# Altium schematic symbol library SIGMA.SchLib: 74 symbols
Pins are listed as number, name and electrical type; pins without a type are passive.

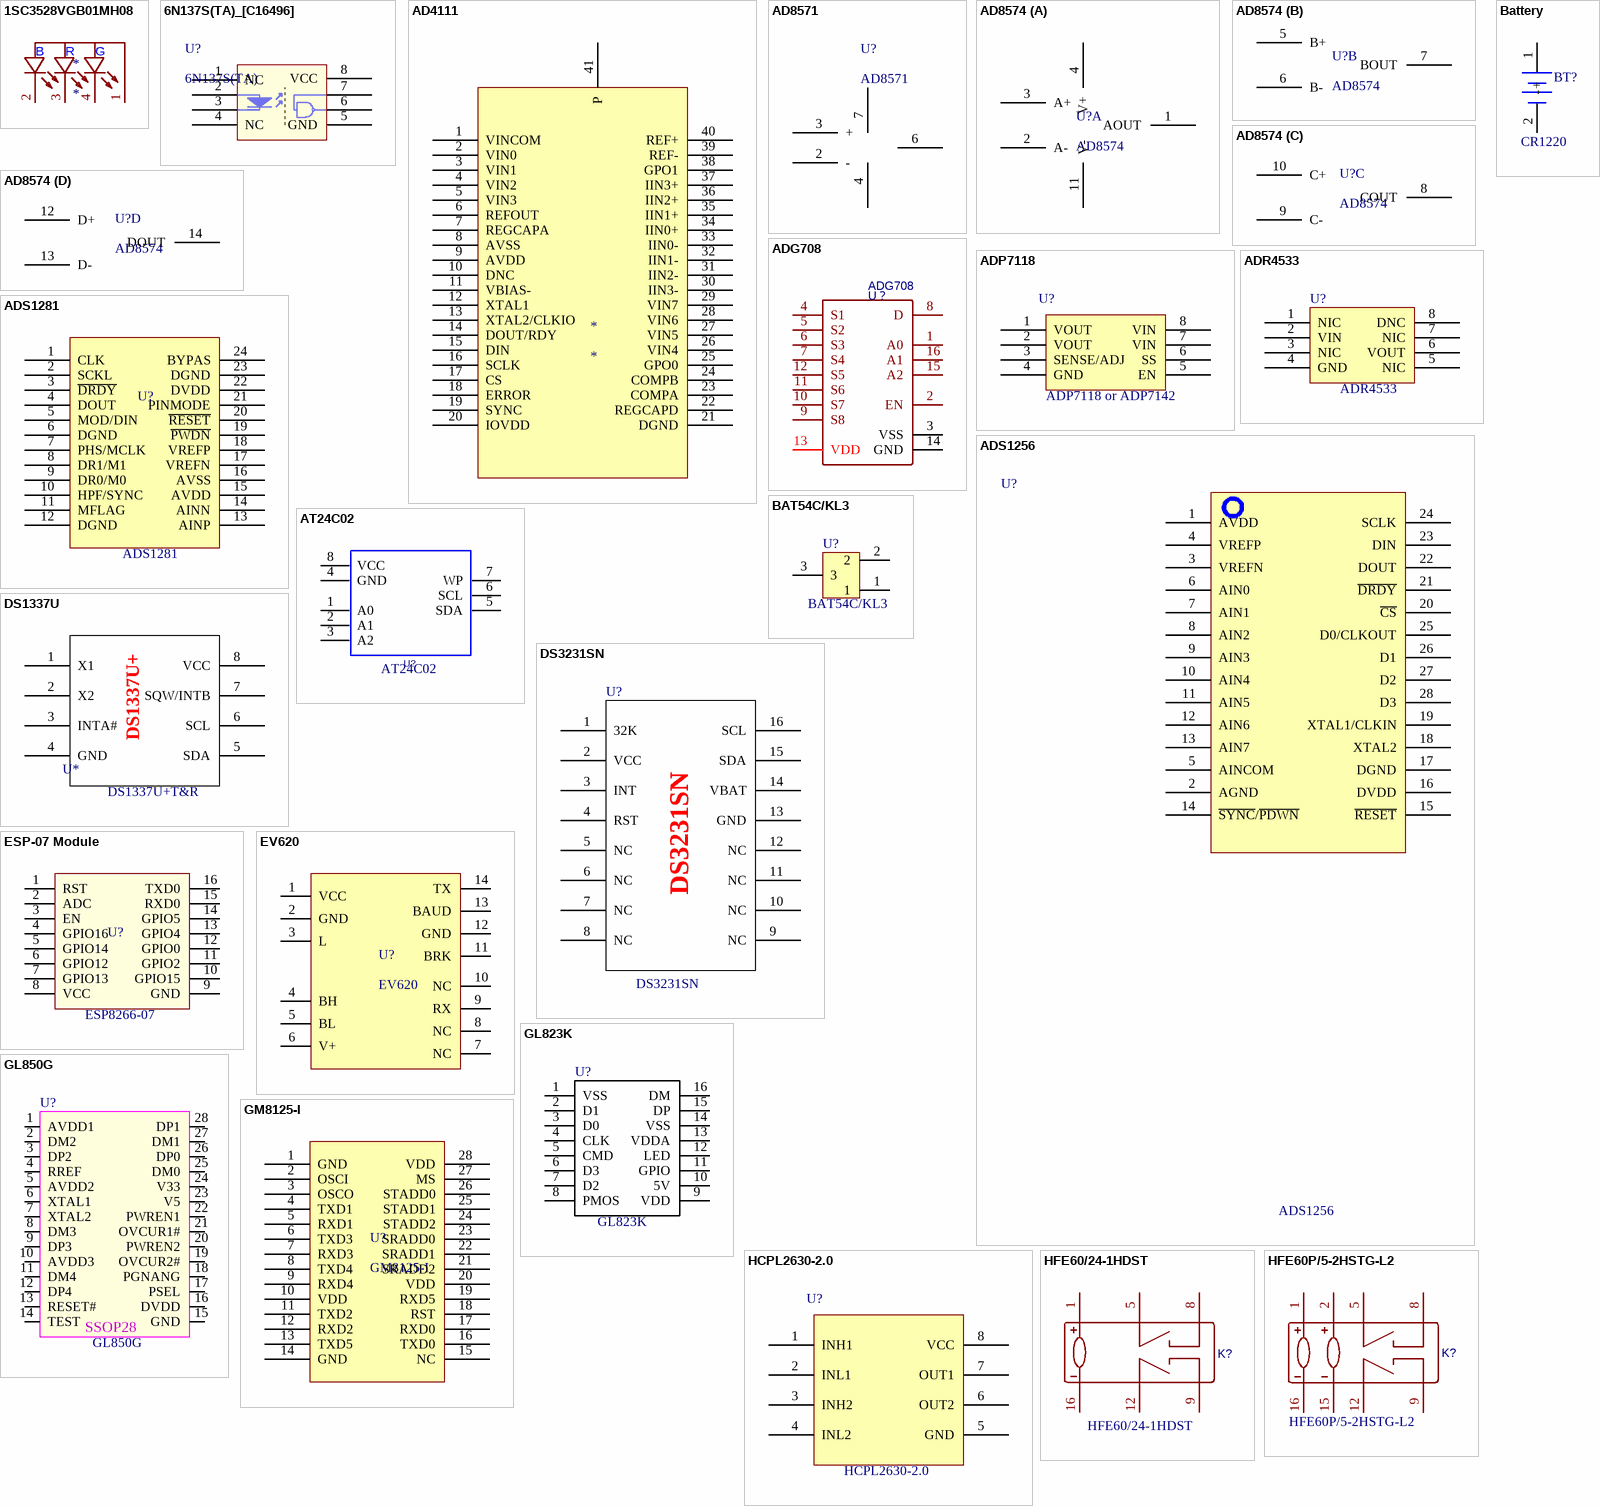
[diagram p0: symbols 1SC3528VGB01MH08 to HFE60P/5-2HSTG-L2]

## 1SC3528VGB01MH08
designator *
pins: 1, 2, 3, 4
text: B; R; G

## 6N137S(TA)_[C16496]
designator U?, comment 6N137S(TA)
贴片光耦; ComponentLink1Description: 供应商链接; ComponentLink1URL: http://www.szlcsc.com/product/details_17178.html; Package: SMD-8_6.3mm; Supplier: LC; SuppliersPartNumber: C16496
footprint SMD-8_6.3mm
pins: 1 NC, 2 A "Anode", 3 K "Cathode", 4 NC, 5 GND, 6 VO, 7 VE, 8 VCC

## AD4111
designator *
pins: 1 VINCOM, 2 VIN0, 3 VIN1, 4 VIN2, 5 VIN3, 6 REFOUT, 7 REGCAPA, 8 AVSS, 9 AVDD, 10 DNC, 11 VBIAS-, 12 XTAL1, 13 XTAL2/CLKIO, 14 DOUT/RDY, 15 DIN, 16 SCLK, 17 CS, 18 ERROR, 19 SYNC, 20 IOVDD, 21 DGND, 22 REGCAPD, 23 COMPA, 24 COMPB, 25 GPO0, 26 VIN4, 27 VIN5, 28 VIN6, 29 VIN7, 30 IIN3-, 31 IIN2-, 32 IIN1-, 33 IIN0-, 34 IIN0+, 35 IIN1+, 36 IIN2+, 37 IIN3+, 38 GPO1, 39 REF-, 40 REF+, 41 P

## AD8571
designator U?
footprint SOIC-8_150mil
pins: 2 -, 3 +, 4 V-, 6 OUT, 7 V+

## AD8574
designator U?
footprint SOIC-14_208mil
part A pins: 1 AOUT, 2 A-, 3 A+, 4 V+, 11 V-
part B pins: 5 B+, 6 B-, 7 BOUT
part C pins: 8 COUT, 9 C-, 10 C+
part D pins: 12 D+, 13 D-, 14 DOUT

## ADG708
designator U？
模拟开关芯片; BOM_Manufacturer: ADI; BOM_Manufacturer Part: ADG708BRUZ; SMT Type: Extend; BOM_Supplier: LCSC; image: //image.lceda.cn/szlcsc/C35325.jpg; BOM_Supplier Part: C35325; BOM_LCSC Assembly: Yes; spicePre: U; spiceSymbolName: ADG708BRUZ
footprint TSSOP16_N (5*6.4*1mm（长宽高）)
pins: 1 A0, 2 EN, 3 VSS, 4 S1, 5 S2, 6 S3, 7 S4, 8 D, 9 S8, 10 S7, 11 S6, 12 S5, 13 VDD, 14 GND, 15 A2, 16 A1

## ADP7118
designator U?, comment value ADP7118 or ADP7142  (hidden comment: ADP7118/ADP7142)
footprint SOIC-8_150mil
pins: 1 VOUT, 2 VOUT, 3 SENSE/ADJ, 4 GND, 5 EN, 6 SS, 7 VIN, 8 VIN

## ADR4533
designator U?
Value: ADR4533
footprint SOIC-8_150mil
pins: 1 NIC, 2 VIN, 3 NIC, 4 GND, 5 NIC, 6 VOUT, 7 NIC, 8 DNC

## ADS1256
designator U?
Value: ADS1256
footprint SSOP-28_208mil
pins: 1 AVDD, 2 AGND, 3 VREFN, 4 VREFP, 5 AINCOM, 6 AIN0, 7 AIN1, 8 AIN2, 9 AIN3, 10 AIN4, 11 AIN5, 12 AIN6, 13 AIN7, 14 ~{SYNC}/~{PDWN}, 15 ~{RESET}, 16 DVDD, 17 DGND, 18 XTAL2, 19 XTAL1/CLKIN, 20 ~{CS}, 21 ~{DRDY}, 22 DOUT, 23 DIN, 24 SCLK, 25 D0/CLKOUT, 26 D1, 27 D2, 28 D3

## ADS1281
designator U?
Value: ADS1281
footprint TSSOP-24
pins: 1 CLK, 2 SCKL, 3 ~{DRDY}, 4 DOUT, 5 MOD/DIN, 6 DGND, 7 PHS/MCLK, 8 DR1/M1, 9 DR0/M0, 10 HPF/SYNC, 11 MFLAG, 12 DGND, 13 AINP, 14 AINN, 15 AVDD, 16 AVSS, 17 VREFN, 18 VREFP, 19 ~{PWDN}, 20 ~{RESET}, 21 PINMODE, 22 DVDD, 23 DGND, 24 BYPAS

## AT24C02
designator U?
8 lead ssop,2k/2048bits; Manufacturer #1: ATMEL; Manufacturer #1 PN: AT24C02; Descrpit: 2k/2048bits; Value: AT24C02
footprint SOP-8_208mil
pins: 1 A0, 2 A1, 3 A2, 4 GND, 5 SDA, 6 SCL, 7 WP, 8 VCC

## BAT54C/KL3
designator U?
Descript: 311肖特基/BAT54C/SOT23; Value: BAT54C/KL3
footprint SOT-23 (SOT23, 3-Leads, Body 2.9x1.3mm, Pitch 0.95mm, Lead Span 2.3mm - Reverse Pinning, IPC High Density)
pins: 1 (power), 2 (power), 3 (power)

## Battery
designator BT?, comment CR1220
Multicell Battery; Descript: 319其它非定制类/电池/CR2032-HC2-22/3引脚焊接型纽扣电池; Published: 24-Mar-1999; LatestRevisionDate: 17-Jul-2002; LatestRevisionNote: Re-released for DXP Platform.; PackageReference: BAT-2; Publisher: Altium Limited; PackageDescription: Battery; 2 Leads; Value: CR1220
footprint CR1220贴片底座
footprint CR1220卧式直插
pins: 1 +, 2 -

## DS1337U
designator U*  (value not drawn)
pins: 1 X1, 2 X2, 3 INTA#, 4 GND, 5 SDA, 6 SCL, 7 SQW/INTB, 8 VCC
text: DS1337U+; DS1337U+T&R

## DS3231SN
designator U?
Value: DS3231SN
footprint SOIC-16_300mil
pins: 1 32K, 2 VCC, 3 INT, 4 RST, 5 NC, 6 NC, 7 NC, 8 NC, 9 NC, 10 NC, 11 NC, 12 NC, 13 GND, 14 VBAT, 15 SDA, 16 SCL

## ESP-07 Module
designator U?, comment ESP8266-07
ESP-07 Module; Value: ESP8266-07
footprint ESP-07 Module
pins: 1 RST, 2 ADC, 3 EN, 4 GPIO16, 5 GPIO14, 6 GPIO12, 7 GPIO13, 8 VCC, 9 GND, 10 GPIO15, 11 GPIO2, 12 GPIO0, 13 GPIO4, 14 GPIO5, 15 RXD0, 16 TXD0

## EV620
designator U?
Powerbus主站模块
footprint EV620 (PowerBus主站模块)
pins: 1 VCC, 2 GND, 3 L, 4 BH, 5 BL, 6 V+, 7 NC, 8 NC, 9 RX, 10 NC, 11 BRK, 12 GND, 13 BAUD, 14 TX

## GL823K
designator U?
SD卡转USB的芯片; Value: GL823K
footprint SSOP16_N (6.3*7.7*1.6mm（长宽高）)
pins: 1 VSS, 2 D1, 3 D0, 4 CLK, 5 CMD, 6 D3, 7 D2, 8 PMOS, 9 VDD, 10 5V, 11 GPIO, 12 LED, 13 VDDA, 14 VSS, 15 DP, 16 DM

## GL850G
designator U?
Value: GL850G
footprint SSOP28
pins: 1 AVDD1, 2 DM2, 3 DP2, 4 RREF, 5 AVDD2, 6 XTAL1, 7 XTAL2, 8 DM3, 9 DP3, 10 AVDD3, 11 DM4, 12 DP4, 13 RESET#, 14 TEST, 15 GND, 16 DVDD, 17 PSEL, 18 PGNANG, 19 OVCUR2#, 20 PWREN2, 21 OVCUR1#, 22 PWREN1, 23 V5, 24 V33, 25 DM0, 26 DP0, 27 DM1, 28 DP1
text: SSOP28

## GM8125-I
designator U?
footprint SOP-28_300mil
pins: 1 GND, 2 OSCI, 3 OSCO, 4 TXD1, 5 RXD1, 6 TXD3, 7 RXD3, 8 TXD4, 9 RXD4, 10 VDD, 11 TXD2, 12 RXD2, 13 TXD5, 14 GND, 15 NC, 16 TXD0, 17 RXD0, 18 RST, 19 RXD5, 20 VDD, 21 SRADD2, 22 SRADD1, 23 SRADD0, 24 STADD2, 25 STADD1, 26 STADD0, 27 MS, 28 VDD

## HCPL2630-2.0
designator U?
Value: HCPL2630-2.0
footprint DIP-8.0
pins: 1 INH1, 2 INL1, 3 INH2, 4 INL2, 5 GND, 6 OUT2, 7 OUT1, 8 VCC

## HFE60/24-1HDST
designator K?
BOM_Manufacturer: Xiamen Hongfa Electroacoustic; Contributor: LCSC; BOM_Supplier: LCSC; BOM_Supplier Part: C358642; BOM_Manufacturer Part: HFE60/24-1HDST; spicePre: K; Value: HFE60/24-1HDST
footprint HFE60/24-1HDST (磁保继电器，断电后也能保持状态)
pins: 1, 5, 8, 9, 12, 16

## HFE60P/5-2HSTG-L2
designator K?
BOM_Manufacturer: HF; Contributor: LCSC; BOM_Supplier: LCSC; BOM_Manufacturer Part: HFE60P/5-2HSTG-L2; BOM_Supplier Part: C125201; spicePre: K; Value: HFE60P/5-2HSTG-L2
footprint HFE60P/5-2HSTG-L2 (双线圈(5V)两组常开(5A250V)磁保持继电器 双稳态)
pins: 1, 2, 5, 8, 9, 12, 15, 16

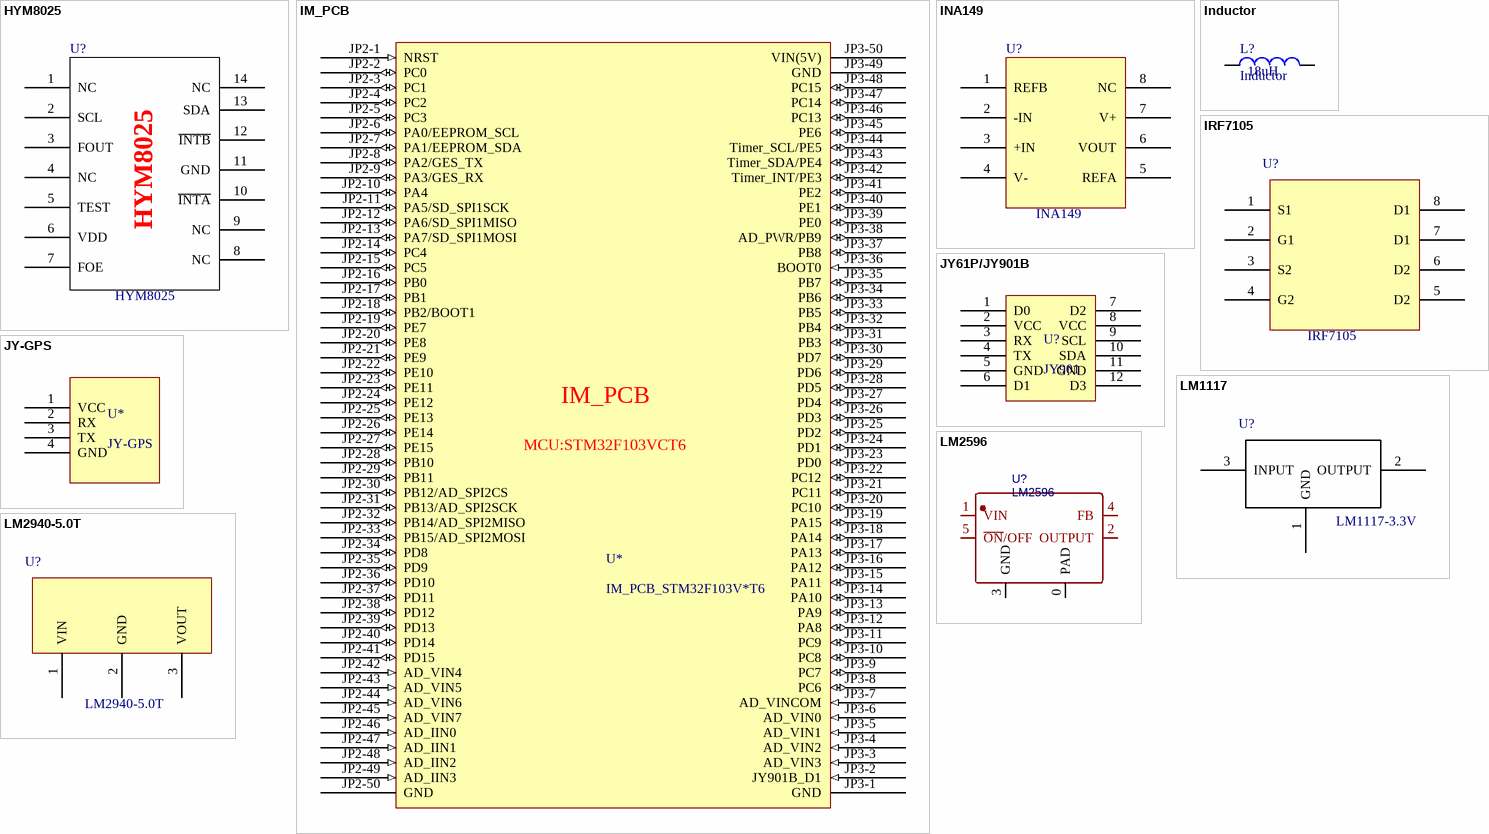
[diagram p1: symbols HYM8025 to LM2940-5.0T]

## HYM8025
designator U?
Value: HYM8025
footprint SOIC-14_208mil
pins: 1 NC, 2 SCL, 3 FOUT, 4 NC, 5 TEST, 6 VDD, 7 FOE, 8 NC, 9 NC, 10 ~{INTA}, 11 GND, 12 ~{INTB}, 13 SDA, 14 NC

## IM_PCB
designator U*, comment IM_PCB_STM32F103V*T6
footprint IM_PCB_Footprint (IM核心板封装)
pins: JP2-1 NRST (in), JP2-2 PC0 (io), JP2-3 PC1 (io), JP2-4 PC2 (io), JP2-5 PC3 (io), JP2-6 PA0/EEPROM_SCL (io), JP2-7 PA1/EEPROM_SDA (io), JP2-8 PA2/GES_TX (io), JP2-9 PA3/GES_RX (io), JP2-10 PA4 (io), JP2-11 PA5/SD_SPI1SCK (io), JP2-12 PA6/SD_SPI1MISO (io), JP2-13 PA7/SD_SPI1MOSI (io), JP2-14 PC4 (io), JP2-15 PC5 (io), JP2-16 PB0 (io), JP2-17 PB1 (io), JP2-18 PB2/BOOT1 (io), JP2-19 PE7 (io), JP2-20 PE8 (io), JP2-21 PE9 (io), JP2-22 PE10 (io), JP2-23 PE11 (io), JP2-24 PE12 (io), JP2-25 PE13 (io), JP2-26 PE14 (io), JP2-27 PE15 (io), JP2-28 PB10 (io), JP2-29 PB11 (io), JP2-30 PB12/AD_SPI2CS (io), JP2-31 PB13/AD_SPI2SCK (io), JP2-32 PB14/AD_SPI2MISO (io), JP2-33 PB15/AD_SPI2MOSI (io), JP2-34 PD8 (io), JP2-35 PD9 (io), JP2-36 PD10 (io), JP2-37 PD11 (io), JP2-38 PD12 (io), JP2-39 PD13 (io), JP2-40 PD14 (io), JP2-41 PD15 (io), JP2-42 AD_VIN4 (in), JP2-43 AD_VIN5 (in), JP2-44 AD_VIN6 (in), JP2-45 AD_VIN7 (in), JP2-46 AD_IIN0 (in), JP2-47 AD_IIN1 (in), JP2-48 AD_IIN2 (in), JP2-49 AD_IIN3 (in), JP2-50 GND (power), JP3-1 GND (power), JP3-2 JY901B_D1 (in), JP3-3 AD_VIN3 (in), JP3-4 AD_VIN2 (in), JP3-5 AD_VIN1 (in), JP3-6 AD_VIN0 (in), JP3-7 AD_VINCOM (in), JP3-8 PC6 (io), JP3-9 PC7 (io), JP3-10 PC8 (io), JP3-11 PC9 (io), JP3-12 PA8 (io), JP3-13 PA9 (io), JP3-14 PA10 (io), JP3-15 PA11 (io), JP3-16 PA12 (io), JP3-17 PA13 (io), JP3-18 PA14 (io), JP3-19 PA15 (io), JP3-20 PC10 (io), JP3-21 PC11 (io), JP3-22 PC12 (io), JP3-23 PD0 (io), JP3-24 PD1 (io), JP3-25 PD2 (io), JP3-26 PD3 (io), JP3-27 PD4 (io), JP3-28 PD5 (io), JP3-29 PD6 (io), JP3-30 PD7 (io), JP3-31 PB3 (io), JP3-32 PB4 (io), JP3-33 PB5 (io), JP3-34 PB6 (io), JP3-35 PB7 (io), JP3-36 BOOT0 (in), JP3-37 PB8 (io), JP3-38 AD_PWR/PB9 (io), JP3-39 PE0 (io), JP3-40 PE1 (io), JP3-41 PE2 (io), JP3-42 Timer_INT/PE3 (io), JP3-43 Timer_SDA/PE4 (io), JP3-44 Timer_SCL/PE5 (io), JP3-45 PE6 (io), JP3-46 PC13 (io), JP3-47 PC14 (io), JP3-48 PC15 (io), JP3-49 GND (power), JP3-50 VIN(5V) (power)
text: MCU:STM32F103VCT6

## INA149
designator U?
Value: INA149
footprint SOIC-8_150mil
pins: 1 REFB, 2 -IN, 3 +IN, 4 V-, 5 REFA, 6 VOUT, 7 V+, 8 NC

## Inductor
designator L?  value 18uH
Code_IEC: 1005; Published: 8-Jun-2000; LatestRevisionDate: 17-Jul-2002; LatestRevisionNote: Re-released for DXP Platform.; PackageReference: 0402-A; Publisher: Altium Limited; Code_JEITA: 0402
footprint 0603_L
simulation model INDUCTOR (Inductor)
signal-integrity model Inductor
footprint 6045 (6.0*6.0*4.5MM)
footprint 0805_L
footprint Introducter[CD127]
pins: 1, 2

## IRF7105
designator U?
连续漏极电流（Id）（25°C 时）: 3.5A，2.3A; 漏源电压（Vdss）: 25V; 栅源极阈值电压（最大值）: 3V @ 250uA; 漏源导通电阻（最大值）: 100 mΩ @ 1A，10V; 类型: N 和 P 沟道; 功率耗散（最大值）: 2W; Value: IRF7105
footprint SO-8_3.9MM
pins: 1 S1, 2 G1, 3 S2, 4 G2, 5 D2, 6 D2, 7 D1, 8 D1

## JY61P/JY901B
designator U?, comment JY901
姿态模块
footprint JY-901
pins: 1 D0, 2 VCC, 3 RX, 4 TX, 5 GND, 6 D1, 7 D2, 8 VCC, 9 SCL, 10 SDA, 11 GND, 12 D3

## JY-GPS
designator U*
footprint JY-GPS
pins: 1 VCC, 2 RX, 3 TX, 4 GND

## LM1117
designator U?  value LM1117-3.3V  (hidden comment: LM1117)
footprint SOT-223
pins: 1 GND, 2 OUTPUT, 3 INPUT

## LM2596
designator U?
BOM_Manufacturer: ON; BOM_Manufacturer Part: LM2596DSADJG; BOM_Supplier: LCSC; BOM_Supplier Part: C92134; spicePre: U; Value: LM2596
footprint TO-263-5
pins: 0 PAD, 1 VIN, 2 OUTPUT, 3 GND, 4 FB, 5 ~{ON}/OFF

## LM2940-5.0T
designator U?, comment value LM2940-5.0T  (hidden comment: LM2940)
LM2940-5.0T
footprint TO-263-3
pins: 1 VIN, 2 GND, 3 VOUT

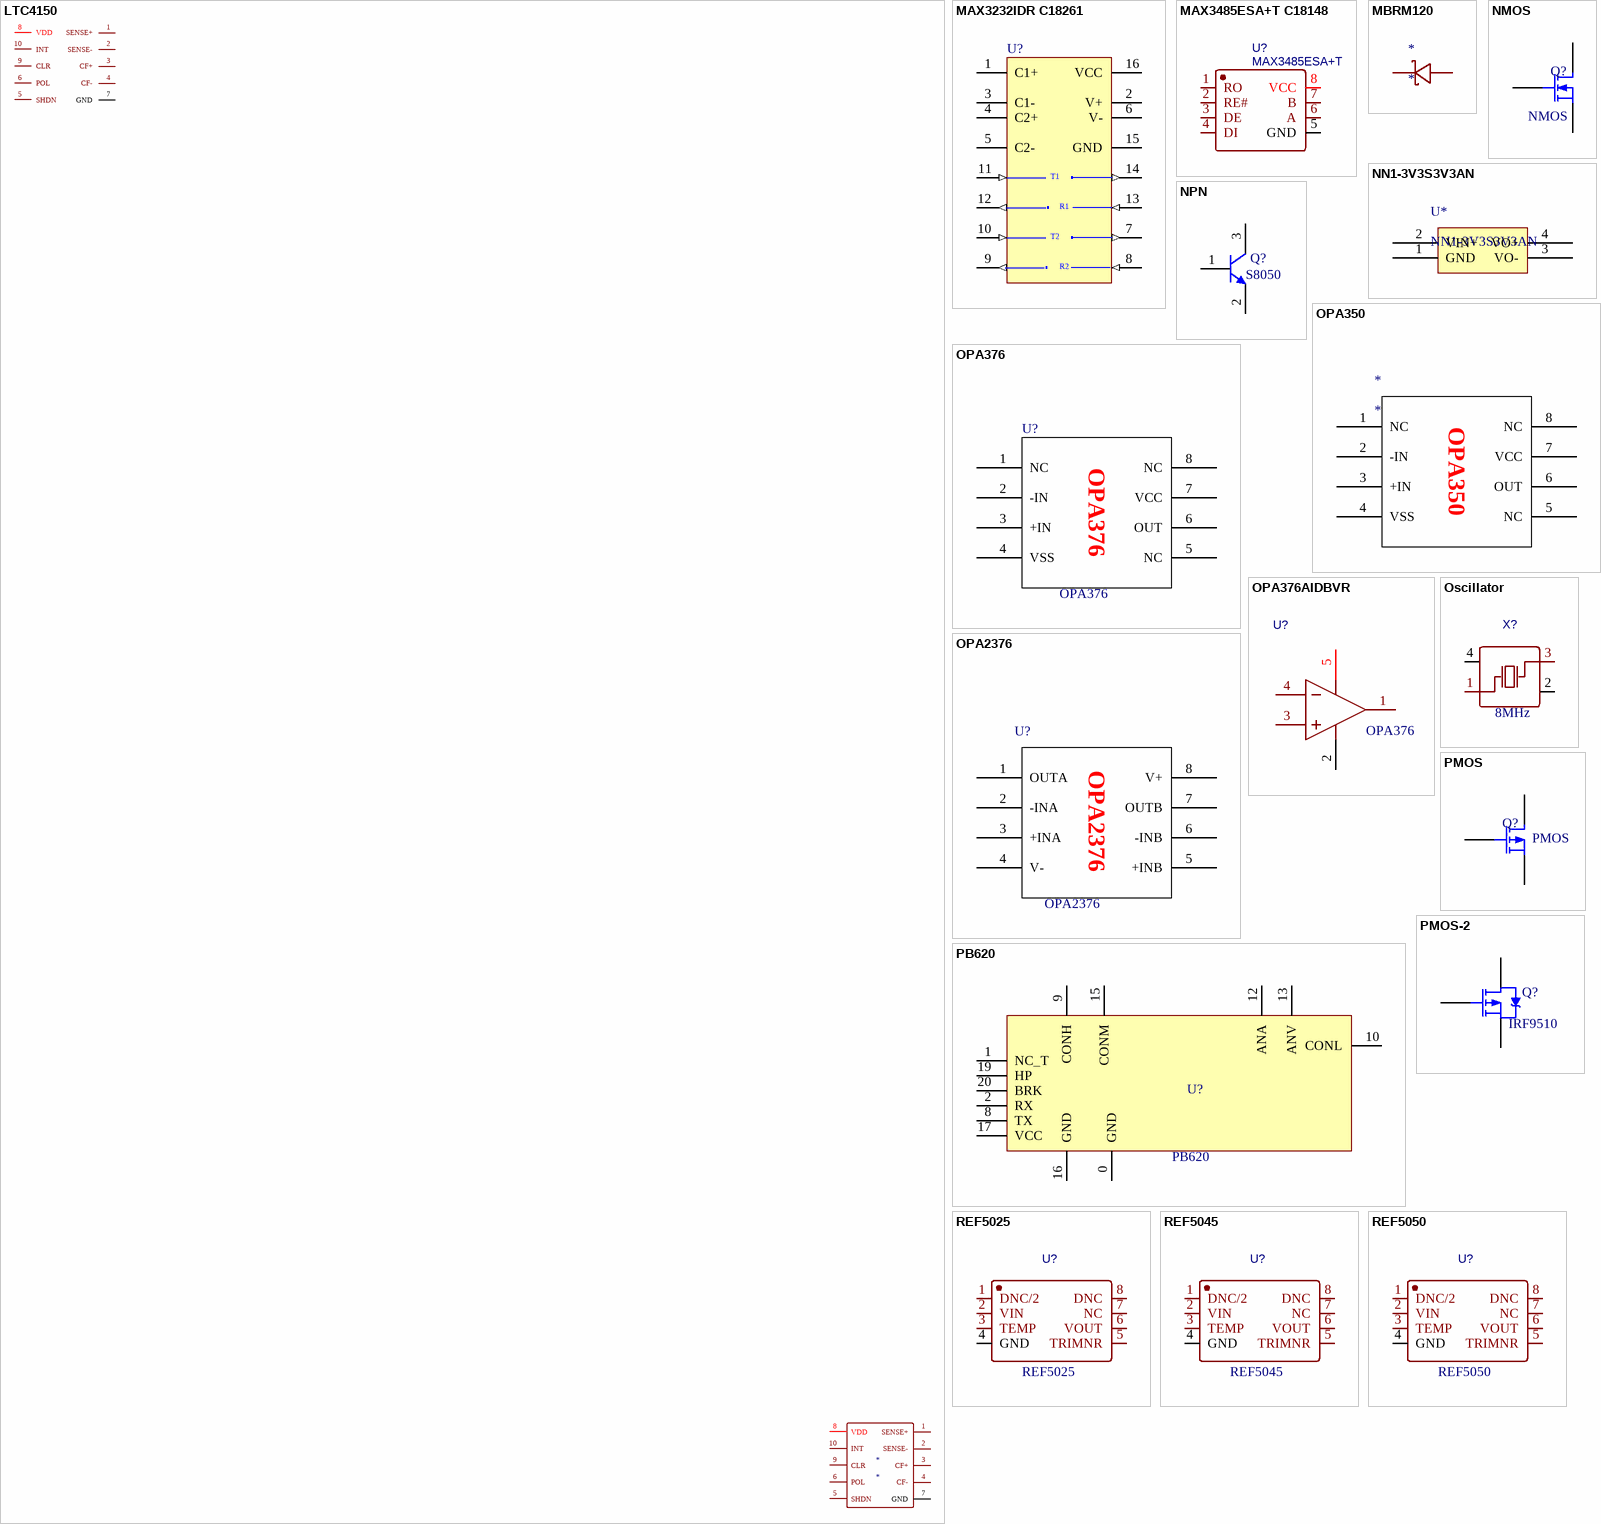
[diagram p2: symbols LTC4150 to REF5050]

## LTC4150
designator *
pins: 1 SENSE+, 1 SENSE+, 2 SENSE-, 2 SENSE-, 3 CF+, 3 CF+, 4 CF-, 4 CF-, 5 SHDN, 5 SHDN, 6 POL, 6 POL, 7 GND, 7 GND, 8 VDD, 8 VDD, 9 CLR, 9 CLR, 10 INT, 10 INT

## MAX3232IDR C18261
designator U?  (value not drawn)
+3.3V Powered, Multi-Channel RS-232 Driver/Receiver; Published: 16-Jan-2001; LatestRevisionDate: 13-Apr-2006; LatestRevisionNote: IPC-7351 Footprint Added.; PackageReference: NSO16; Publisher: Altium Limited; PackageDescription: 16-Pin Small Outline Integrated Circuit 1.27 mm Pitch; Code_JEDEC: MS-012-AC; Code_IPC: SOIC127P600-16; ComponentLink1Description: Manufacturer Link; ComponentLink1URL: http://www.maxim-ic.com/; ComponentLink2Description: Datasheet; ComponentLink2URL: https://item.szlcsc.com/18956.html
3D model NSO16 (16-Pin Small Outline Integrated Circuit 1.27 mm Pitch)
footprint SOIC-16_150mil
pins: 1 C1+, 2 V+ (power), 3 C1-, 4 C2+, 5 C2-, 6 V- (power), 7 T2OUT (out), 8 R2IN (in), 9 R2OUT (out), 10 T2IN (in), 11 T1IN (in), 12 R1OUT (out), 13 R1IN (in), 14 T1OUT (out), 15 GND (power), 16 VCC (power)
text: T1; R1; T2; R2

## MAX3485ESA+T C18148
designator U?, comment MAX3485ESA+T
485芯片; BOM_Manufacturer: MAXIM; SMT Type: Extend; BOM_Supplier: LCSC; BOM_Manufacturer Part: MAX3485ESA+T; image: //image.lceda.cn/szlcsc/C18148.jpg; BOM_Supplier Part: C18148; BOM_LCSC Assembly: Yes; spicePre: U; URL: https://item.szlcsc.com/18840.html
footprint SOIC-8_150MIL
pins: 1 RO, 2 RE#, 3 DE, 4 DI, 5 GND, 6 A, 7 B, 8 VCC

## MBRM120
designator *
pins: 1 C, 2 A

## NMOS
designator Q?
Value: NMOS
footprint TO252
footprint SOT-23 (SOT23, 3-Leads, Body 2.9x1.3mm, Pitch 0.95mm, Lead Span 2.3mm - Reverse Pinning, IPC High Density)
pins: 1 G, 2 D, 3 S

## NN1-3V3S3V3AN
designator U*
DC-DC隔离芯片; ComponentLink1Description: https://item.szlcsc.com/217114.html
footprint B0505S-1W (11.68mm*6mm*9.65mm(长*宽*高）)
footprint B0505D-2W (19.5mm*9.8mm*7.7mm(长*宽*高）)
footprint B0505S-2W (19.5mm*7.5mm*10mm(长*宽*高）)
pins: 1 GND, 2 VIN+, 3 VO-, 4 VO+

## NPN
designator Q?  value S8050  (hidden comment: NPN)
NPN Bipolar Transistor; Published: 8-Jun-2000; LatestRevisionDate: 17-Jul-2002; LatestRevisionNote: Re-released for DXP Platform.; PackageReference: TO-226-AA; Publisher: Altium Limited; PackageDescription: TO, Flat Index; 3 In-Line, Axial Leads; Body Dia. 4.8mm; Leads 0.55 x 0.51 mm (max); Code_JEDEC: TO-226-AA
simulation model NPN
signal-integrity model NPN
footprint SOT-23 (SOT23, 3-Leads, Body 2.9x1.3mm, Pitch 0.95mm, Lead Span 2.3mm - Reverse Pinning, IPC High Density)
pins: 1 B, 2 E, 3 C

## OPA350
designator *
pins: 1 NC, 2 -IN, 3 +IN, 4 VSS, 5 NC, 6 OUT, 7 VCC, 8 NC

## OPA376
designator U?
Value: OPA376
footprint SOIC-8_150mil
pins: 1 NC, 2 -IN, 3 +IN, 4 VSS, 5 NC, 6 OUT, 7 VCC, 8 NC

## OPA376AIDBVR
designator U?  value OPA376  (hidden comment: OPA376AIDBVR)
BOM_Manufacturer: TI; BOM_Supplier: LCSC; BOM_Manufacturer Part: OPA376AIDBVR; image: //image.lceda.cn/szlcsc/C42134.jpg; BOM_Supplier Part: C42134; BOM_LCSC Assembly: Yes; spicePre: U
footprint SOT-23-5
pins: 1 OUT, 2 V-, 3 IN+, 4 IN-, 5 V+

## OPA2376
designator U?
Value: OPA2376
footprint SOIC-8_150mil
pins: 1 OUTA, 2 -INA, 3 +INA, 4 V-, 5 +INB, 6 -INB, 7 OUTB, 8 V+

## Oscillator
designator X?, comment value 8MHz  (hidden comment: 有源晶振)
BOM_Manufacturer: TAE; BOM_Manufacturer Part: SMD-5032_4P8M20pf20ppm; nameAlias: Frequency; Contributor: LCSC; BOM_Supplier: LCSC; BOM_Supplier Part: C133333; spicePre: X; spiceSymbolName: SMD-5032_4P8M20PF20PPM
footprint SMD-5032_4P (Footprint not found)
footprint SMD-3225_4P
pins: 1 OSC1, 2 GND, 3 OSC2, 4 GND

## PB620
designator U?
footprint QFN20 5X5 (20脚，长x宽x高：5x5x0.9mm，脚距：0.5mm)
pins: 0 GND, 1 NC_T, 2 RX, 8 TX, 9 CONH, 10 CONL, 12 ANA, 13 ANV, 15 CONM, 16 GND, 17 VCC, 19 HP, 20 BRK

## PMOS
designator Q?
Value: PMOS
footprint TO252
footprint SOT-23 (SOT23, 3-Leads, Body 2.9x1.3mm, Pitch 0.95mm, Lead Span 2.3mm - Reverse Pinning, IPC High Density)
pins: 1 G, 2 D, 3 S

## PMOS-2
designator Q?  value IRF9510  (hidden comment: PMOS-2)
P-Channel Power MOSFET; Note: Pin 4 not drawn and electrically connected to Pin 2.; Published: 8-Jun-2000; LatestRevisionDate: 17-Jul-2002; LatestRevisionNote: Re-released for DXP Platform.; DatasheetDocument: PD-9.390D; PackageReference: TO-220AB; Publisher: Altium Limited; Code_JEDEC: TO-220-AB; ComponentLink1Description: Manufacturer Link; ComponentLink1URL: http://www.irf.com/
simulation model IRF9510 (Spice Subcircuit)
footprint SOT-23 (SOT23, 3-Leads, Body 2.9x1.3mm, Pitch 0.95mm, Lead Span 2.3mm - Reverse Pinning, IPC High Density)
footprint TO252
pins: 1 G, 2 S, 3 D

## REF5025
designator U?
电压基准芯片 输出电压（最小值/固定）：2.5V 输出电流：10mA; BOM_Manufacturer: TI; BOM_Manufacturer Part: REF5025AIDGKT; Contributor: LCSC; BOM_Supplier: LCSC; BOM_Supplier Part: C75881; spicePre: U; Value: REF5025
footprint SOIC-8_150mil
pins: 1 DNC/2, 2 VIN, 3 TEMP, 4 GND, 5 TRIMNR, 6 VOUT, 7 NC, 8 DNC

## REF5045
designator U?
电压基准芯片 输出电压（最小值/固定）：4.5V 输出电流：10mA; BOM_Manufacturer: TI; BOM_Manufacturer Part: REF5025AIDGKT; Contributor: LCSC; BOM_Supplier: LCSC; BOM_Supplier Part: C75881; spicePre: U; Value: REF5045
footprint SOIC-8_150mil (5*6.2*1.75mm)
pins: 1 DNC/2, 2 VIN, 3 TEMP, 4 GND, 5 TRIMNR, 6 VOUT, 7 NC, 8 DNC

## REF5050
designator U?
电压基准芯片 输出电压（最小值/固定）：5.0V 输出电流：10mA; BOM_Manufacturer: TI; BOM_Manufacturer Part: REF5025AIDGKT; Contributor: LCSC; BOM_Supplier: LCSC; BOM_Supplier Part: C75881; spicePre: U; Value: REF5050
footprint SOIC-8_150mil
pins: 1 DNC/2, 2 VIN, 3 TEMP, 4 GND, 5 TRIMNR, 6 VOUT, 7 NC, 8 DNC

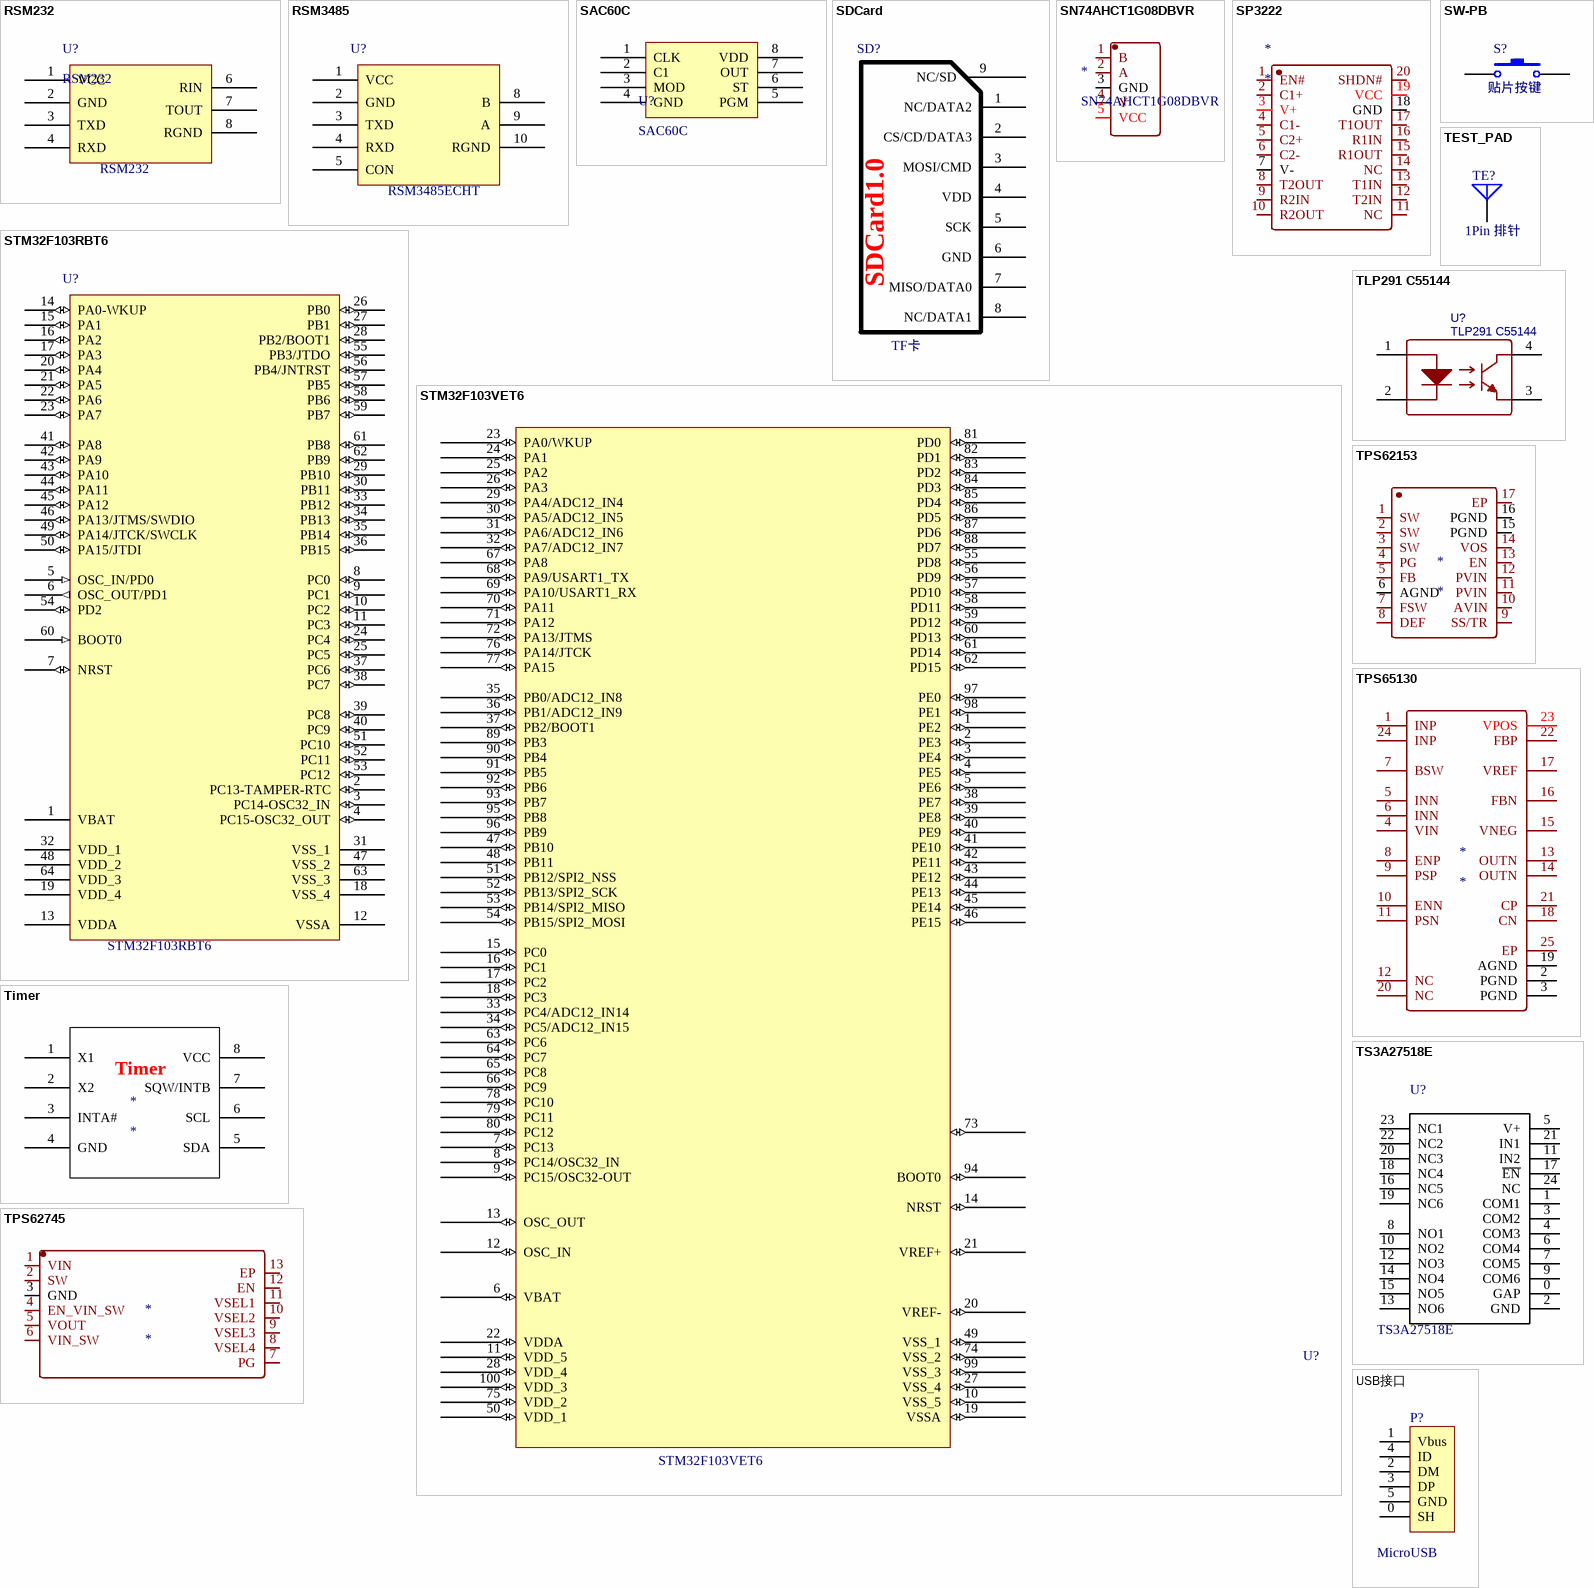
[diagram p3: symbols RSM232 to USB接口]

## RSM232
designator U?
Value: RSM232
footprint RSM232
pins: 1 VCC, 2 GND, 3 TXD, 4 RXD, 6 RIN, 7 TOUT, 8 RGND

## RSM3485
designator U?  value RSM3485ECHT  (hidden comment: RSM3485)
footprint RSM3485ECHT
pins: 1 VCC, 2 GND, 3 TXD, 4 RXD, 5 CON, 8 B, 9 A, 10 RGND

## SAC60C
designator U?
footprint LSOP8
pins: 1 CLK, 2 C1, 3 MOD, 4 GND, 5 PGM, 6 ST, 7 OUT, 8 VDD

## SDCard
designator SD?  value TF卡  (hidden comment: SDCard)
footprint SDCard
pins: 1 NC/DATA2, 2 CS/CD/DATA3, 3 MOSI/CMD, 4 VDD, 5 SCK, 6 GND, 7 MISO/DATA0, 8 NC/DATA1, 9 NC/SD
text: SDCard1.0

## SN74AHCT1G08DBVR
designator *
单通道逻辑或门
pins: 1 B, 2 A, 3 GND, 4 Y, 5 VCC

## SP3222
designator *
pins: 1 EN#, 2 C1+, 3 V+, 4 C1-, 5 C2+, 6 C2-, 7 V-, 8 T2OUT, 9 R2IN, 10 R2OUT, 11 NC, 12 T2IN, 13 T1IN, 14 NC, 15 R1OUT, 16 R1IN, 17 T1OUT, 18 GND, 19 VCC, 20 SHDN#

## STM32F103RBT6
designator U?  value STM32F103RBT6
STM32 ARM-based 32-bit MCU with 128 Kbytes Flash, 64-pin LQFP, Industrial Temperature; Published: 30-May-2008; DatasheetVersion: rev6, Mar-2008; PackageVersion: Mar-2008; PackageReference: LQFP64; Publisher: Altium Limited; PackageDescription: 64-Pin Low-Profile Quad Flat Pack, 10 x 10 mm Body, 0.5 mm Pitch (LQFP64); ComponentLink1Description: Manufacturer Link; ComponentLink1URL: www.st.com/stm32; ComponentLink2Description: Datasheet; ComponentLink2URL: http://www.st.com/stonline/products/literature/ds/13587.pdf
footprint LQFP64_M (Thin QFP, 64-Leads, Body 10x10mm, Pitch 0.5mm, IPC Low Density)
footprint LQFP-64_10x10x05P (嘉立创官网使用封装)
pins: 1 VBAT (power), 2 PC13-TAMPER-RTC (io), 3 PC14-OSC32_IN (io), 4 PC15-OSC32_OUT (io), 5 OSC_IN/PD0 (in), 6 OSC_OUT/PD1 (out), 7 NRST (io), 8 PC0 (io), 9 PC1 (io), 10 PC2 (io), 11 PC3 (io), 12 VSSA (power), 13 VDDA (power), 14 PA0-WKUP (io), 15 PA1 (io), 16 PA2 (io), 17 PA3 (io), 18 VSS_4 (power), 19 VDD_4 (power), 20 PA4 (io), 21 PA5 (io), 22 PA6 (io), 23 PA7 (io), 24 PC4 (io), 25 PC5 (io), 26 PB0 (io), 27 PB1 (io), 28 PB2/BOOT1 (io), 29 PB10 (io), 30 PB11 (io), 31 VSS_1 (power), 32 VDD_1 (power), 33 PB12 (io), 34 PB13 (io), 35 PB14 (io), 36 PB15 (io), 37 PC6 (io), 38 PC7 (io), 39 PC8 (io), 40 PC9 (io), 41 PA8 (io), 42 PA9 (io), 43 PA10 (io), 44 PA11 (io), 45 PA12 (io), 46 PA13/JTMS/SWDIO (io), 47 VSS_2 (power), 48 VDD_2 (power), 49 PA14/JTCK/SWCLK (io), 50 PA15/JTDI (io), 51 PC10 (io), 52 PC11 (io), 53 PC12 (io), 54 PD2 (io), 55 PB3/JTDO (io), 56 PB4/JNTRST (io), 57 PB5 (io), 58 PB6 (io), 59 PB7 (io), 60 BOOT0 (in), 61 PB8 (io), 62 PB9 (io), 63 VSS_3 (power), 64 VDD_3 (power)

## STM32F103VET6
designator U?
Value: STM32F103VET6
footprint LQFP-100_14x14x05P (嘉立创官网使用封装)
footprint LQFP100_M (Thin QFP, 100-Leads, Body 14x14mm, Pitch 0.5mm, IPC Low Density)
pins: 1 PE2 (io), 2 PE3 (io), 3 PE4 (io), 4 PE5 (io), 5 PE6 (io), 6 VBAT (io), 7 PC13 (io), 8 PC14/OSC32_IN (io), 9 PC15/OSC32-OUT (io), 10 VSS_5 (io), 11 VDD_5 (io), 12 OSC_IN (io), 13 OSC_OUT (io), 14 NRST (io), 15 PC0 (io), 16 PC1 (io), 17 PC2 (io), 18 PC3 (io), 19 VSSA (io), 20 VREF- (io), 21 VREF+ (io), 22 VDDA (io), 23 PA0/WKUP (io), 24 PA1 (io), 25 PA2 (io), 26 PA3 (io), 27 VSS_4 (io), 28 VDD_4 (io), 29 PA4/ADC12_IN4 (io), 30 PA5/ADC12_IN5 (io), 31 PA6/ADC12_IN6 (io), 32 PA7/ADC12_IN7 (io), 33 PC4/ADC12_IN14 (io), 34 PC5/ADC12_IN15 (io), 35 PB0/ADC12_IN8 (io), 36 PB1/ADC12_IN9 (io), 37 PB2/BOOT1 (io), 38 PE7 (io), 39 PE8 (io), 40 PE9 (io), 41 PE10 (io), 42 PE11 (io), 43 PE12 (io), 44 PE13 (io), 45 PE14 (io), 46 PE15 (io), 47 PB10 (io), 48 PB11 (io), 49 VSS_1 (io), 50 VDD_1 (io), 51 PB12/SPI2_NSS (io), 52 PB13/SPI2_SCK (io), 53 PB14/SPI2_MISO (io), 54 PB15/SPI2_MOSI (io), 55 PD8 (io), 56 PD9 (io), 57 PD10 (io), 58 PD11 (io), 59 PD12 (io), 60 PD13 (io), 61 PD14 (io), 62 PD15 (io), 63 PC6 (io), 64 PC7 (io), 65 PC8 (io), 66 PC9 (io), 67 PA8 (io), 68 PA9/USART1_TX (io), 69 PA10/USART1_RX (io), 70 PA11 (io), 71 PA12 (io), 72 PA13/JTMS (io), 73 (io), 74 VSS_2 (io), 75 VDD_2 (io), 76 PA14/JTCK (io), 77 PA15 (io), 78 PC10 (io), 79 PC11 (io), 80 PC12 (io), 81 PD0 (io), 82 PD1 (io), 83 PD2 (io), 84 PD3 (io), 85 PD4 (io), 86 PD5 (io), 87 PD6 (io), 88 PD7 (io), 89 PB3 (io), 90 PB4 (io), 91 PB5 (io), 92 PB6 (io), 93 PB7 (io), 94 BOOT0 (io), 95 PB8 (io), 96 PB9 (io), 97 PE0 (io), 98 PE1 (io), 99 VSS_3 (io), 100 VDD_3 (io)

## SW-PB
designator S?  value 贴片按键  (hidden comment: SW-PB)
Switch; Published: 24-Mar-1999; LatestRevisionDate: 17-Jul-2002; LatestRevisionNote: Re-released for DXP Platform.; PackageReference: SPST-2; Publisher: Altium Limited
footprint KEY-SMD1
pins: 1, 2

## TEST_PAD
designator TE?, comment value 1Pin 排针  (hidden comment: test)
footprint PIN1 (Connector; Plug)
pins: 1 A

## Timer
designator *
pins: 1 X1, 2 X2, 3 INTA#, 4 GND, 5 SDA, 6 SCL, 7 SQW/INTB, 8 VCC

## TLP291 C55144
designator U?
光耦芯片; BOM_Manufacturer: TOSHIBA; BOM_Manufacturer Part: TLP291(GRH-TP,SE; Contributor: LCSC; BOM_Supplier: LCSC; BOM_Supplier Part: C192426; spicePre: U; ComponentLink1URL: https://item.szlcsc.com/56170.html
footprint SOP-4_P1.27
footprint SOP4-W1.27 (间距1.27mm（蒜米工坊）)
pins: 1 AN, 2 CAT, 3 E, 4 COL

## TPS62153
designator *
pins: 1 SW, 2 SW, 3 SW, 4 PG, 5 FB, 6 AGND, 7 FSW, 8 DEF, 9 SS/TR, 10 AVIN, 11 PVIN, 12 PVIN, 13 EN, 14 VOS, 15 PGND, 16 PGND, 17 EP

## TPS62745
designator *
pins: 1 VIN, 2 SW, 3 GND, 4 EN_VIN_SW, 5 VOUT, 6 VIN_SW, 7 PG, 8 VSEL4, 9 VSEL3, 10 VSEL2, 11 VSEL1, 12 EN, 13 EP

## TPS65130
designator *
pins: 1 INP, 2 PGND, 3 PGND, 4 VIN, 5 INN, 6 INN, 7 BSW, 8 ENP, 9 PSP, 10 ENN, 11 PSN, 12 NC, 13 OUTN, 14 OUTN, 15 VNEG, 16 FBN, 17 VREF, 18 CN, 19 AGND, 20 NC, 21 CP, 22 FBP, 23 VPOS, 24 INP, 25 EP

## TS3A27518E
designator U?
Value: TS3A27518E
footprint TSSOP24_N (7.8*6.4*1mm（长宽高）)
footprint QFN24 4x4_N (24脚，长x宽x高：4x4x1mm，脚距：0.5mm)
pins: 0 GAP, 1 COM1, 2 GND, 3 COM2, 4 COM3, 5 V+, 6 COM4, 7 COM5, 8 NO1, 9 COM6, 10 NO2, 11 IN2, 12 NO3, 13 NO6, 14 NO4, 15 NO5, 16 NC5, 17 ~{EN}, 18 NC4, 19 NC6, 20 NC3, 21 IN1, 22 NC2, 23 NC1, 24 NC

## USB接口
designator P?  value MicroUSB  (hidden comment: USB接口)
MicroUSB 端子
footprint MICRO-USB-1
footprint USB-MINI-SMD-9.4X9.2-H3.7
footprint USB-A/F-2
footprint USB-A-F-90-14.5X14.4-H7.0
footprint USB-A-F-90-JCJ-H9.5
footprint USB-M-49
pins: 0 SH, 1 Vbus, 2 DM, 3 DP, 4 ID, 5 GND

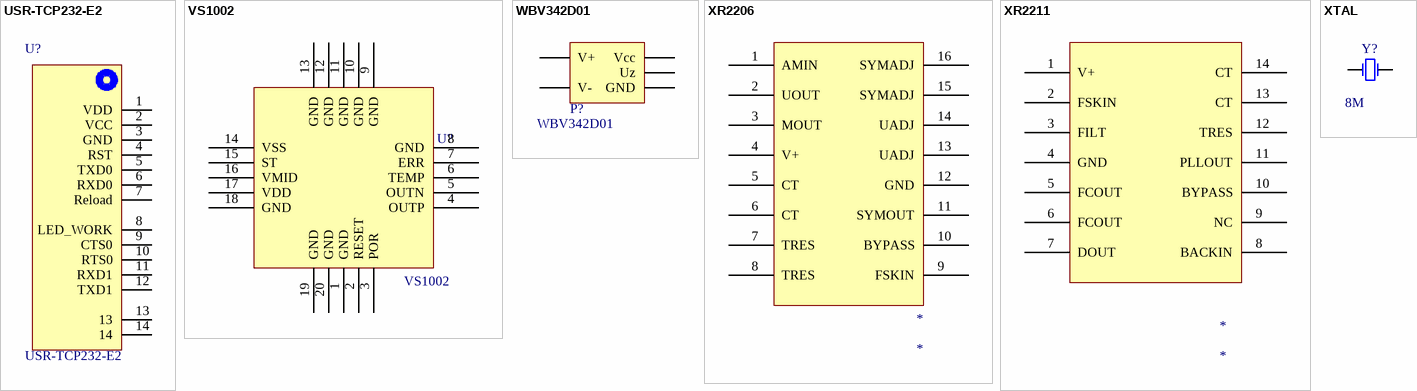
[diagram p4: symbols USR-TCP232-E2 to XTAL]

## USR-TCP232-E2
designator U?
Value: USR-TCP232-E2
footprint USR-TCP232-E2
pins: 1 VDD, 2 VCC, 3 GND, 4 RST, 5 TXD0, 6 RXD0, 7 Reload, 8 LED_WORK, 9 CTS0, 10 RTS0, 11 RXD1, 12 TXD1, 13, 14

## VS1002
designator U?
Value: VS1002
footprint VS1002 (LCC, 20-Pins, Body 9.1x9.1mm (max), Pitch 1.27mm, IPC Medium Density)
pins: 1 GND, 2 RESET, 3 POR, 4 OUTP, 5 OUTN, 6 TEMP, 7 ERR, 8 GND, 9 GND, 10 GND, 11 GND, 12 GND, 13 GND, 14 VSS, 15 ST, 16 VMID, 17 VDD, 18 GND, 19 GND, 20 GND

## WBV342D01
designator P?
Value: WBV342D01
footprint WBV342D01 (插针式直流电压传感器)
pins: 1 V-, 2 V+, 3 Uz, 4 GND, 5 Vcc

## XR2206
designator *
pins: 1 AMIN, 2 UOUT, 3 MOUT, 4 V+, 5 CT, 6 CT, 7 TRES, 8 TRES, 9 FSKIN, 10 BYPASS, 11 SYMOUT, 12 GND, 13 UADJ, 14 UADJ, 15 SYMADJ, 16 SYMADJ

## XR2211
designator *
pins: 1 V+, 2 FSKIN, 3 FILT, 4 GND, 5 FCOUT, 6 FCOUT, 7 DOUT, 8 BACKIN, 9 NC, 10 BYPASS, 11 PLLOUT, 12 TRES, 13 CT, 14 CT

## XTAL
designator Y?, comment value 8M  (hidden comment: 无源晶振)
Crystal Oscillator; Published: 8-Jun-2000; LatestRevisionDate: 17-Jul-2002; LatestRevisionNote: Re-released for DXP Platform.; PackageReference: R38; Publisher: Altium Limited
footprint HC-49S (晶振)
footprint HC-49SMD (晶振)
pins: 1 OSC1, 2 OSC2